# EAGLE library part TI_JTAG (library hijack)
CONN HEADER 14POS .100" T/H GOLD
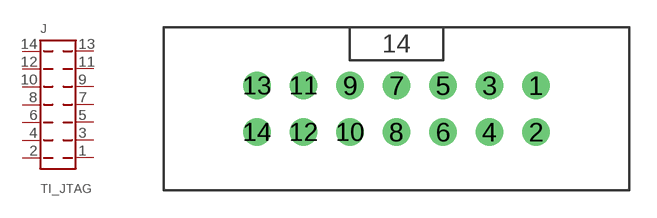
[diagram p4: symbol with the pads of TST-107; footprint TST-107]

Designator prefix J

## TI_JTAG (DIGIKEY: TST-107-01-L-D-ND)  [TST-107]
1  P$1
2  P$2
3  P$3
4  P$4
5  P$5
6  P$6
7  P$7
8  P$8
9  P$9
10  P$10
11  P$11
12  P$12
13  P$13
14  P$14

## Footprint TST-107 (pad centres in mm)
drill 1: 1 7.62,1.27; 2 7.62,-1.27; 3 5.08,1.27; 4 5.08,-1.27; 5 2.54,1.27; 6 2.54,-1.27; 7 0,1.27; 8 0,-1.27; 9 -2.54,1.27; 10 -2.54,-1.27; 11 -5.08,1.27; 12 -5.08,-1.27; 13 -7.62,1.27; 14 -7.62,-1.27